# EAGLE library part SI1145 (library Silicon Labs)
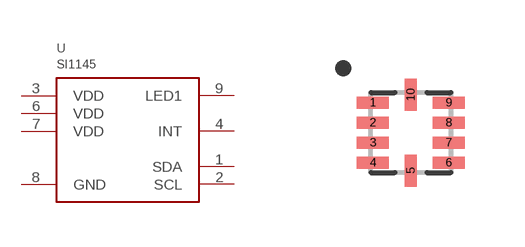
[diagram p4: symbol with the pads of QFN10; footprint QFN10]

Designator prefix U

## SI1145  [QFN10]
1  SDA
2  SCL
3  VDD
4  INT
6  VDD
7  VDD
8  GND
9  LED1

## Footprint QFN10 (pad centres in mm)
smd 0.8 x 0.3: 1 -0.95,0.75; 2 -0.95,0.25; 3 -0.95,-0.25; 4 -0.95,-0.75; 6 0.95,-0.75; 7 0.95,-0.25; 8 0.95,0.25; 9 0.95,0.75
smd 0.3 x 0.8: 5 0,-0.95; 10 0,0.95